# Altium footprint library RES.PcbLib: 26 footprints (part 1 of 2)
Each footprint in its own frame and in the unit in brackets; x right, y up, seen from the top. Pads: shape width x height; smd on the part's side, far side on the other; paste and mask are expansions set on the pad; w line width, h text height; cw(c..) or ccw(c..) is an arc to the next point about the centre after c.
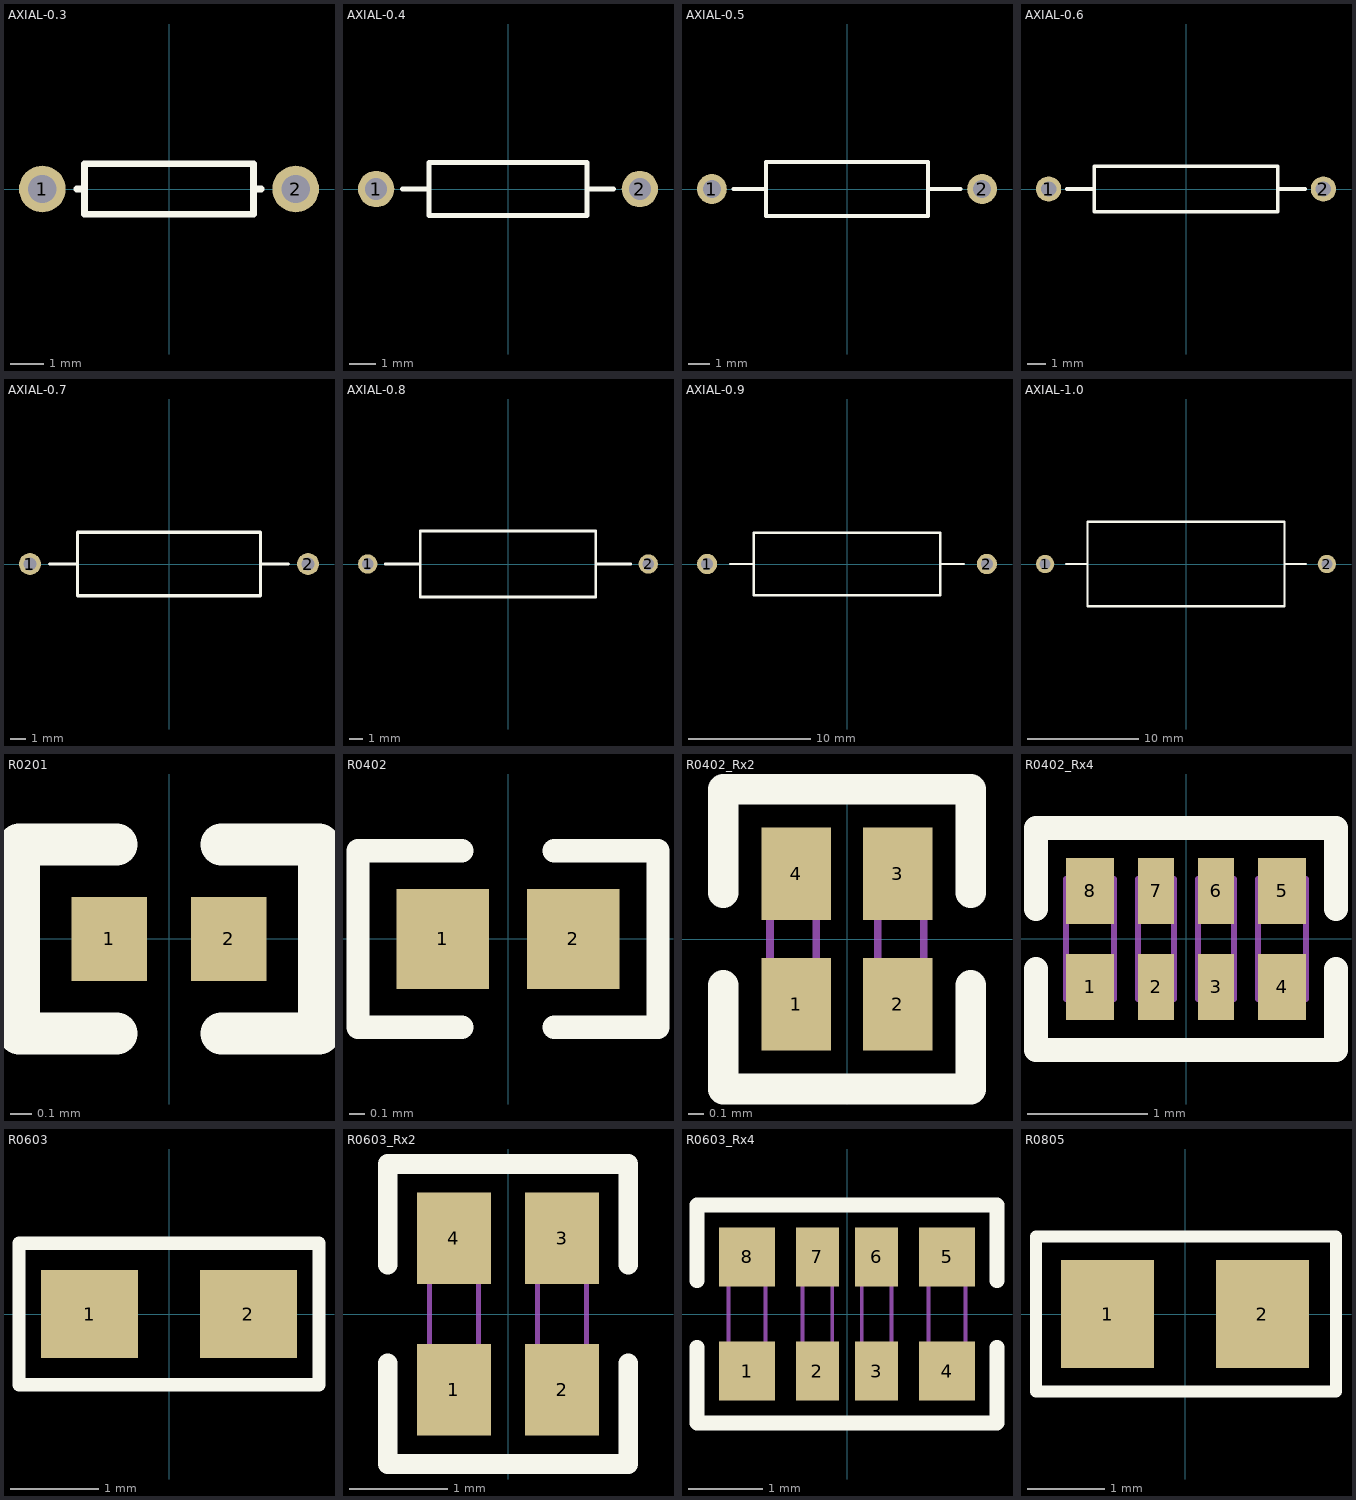
[diagram p0: the footprints below, top view; thin cyan lines are the x and y axes]

## AXIAL-0.3 [mm] "Axial Device, Thru-Hole; 2 Leads; 0.3 in Pin Spacing"
height 1.524
pads (2):
  round 1.4 hole 0.85: 1(-3.81,0) 2(3.81,0)
Top Overlay:
  lines w0.2: -2.769,0 -2.54,0 ; 2.769,0 2.54,0 ; 2.54,0 2.54,-0.762 -2.54,-0.762 -2.54,0.762 2.54,0.762 2.54,0

## AXIAL-0.4 [mm] "Axial Device, Thru-Hole; 2 Leads; 0.4 in Pin Spacing"
height 2.032
pads (2):
  round 1.4 hole 0.85: 1(-5.08,0) 2(5.08,0)
Top Overlay:
  lines w0.2: -4.064,0 -3.048,0 ; 3.048,0 4.064,0 ; -3.048,-1.016 3.048,-1.016 3.048,1.016 -3.048,1.016 -3.048,-1.016
3D body "User Library-Res40-Axial 0_25W-1K.step": height 2.41, standoff -2, extent -5.38,-1.257 5.38,1.143

## AXIAL-0.5 [mm] "Axial Device, Thru-Hole; 2 Leads; 0.5 in Pin Spacing"
height 2.54
pads (2):
  round 1.4 hole 0.85: 1(-6.35,0) 2(6.35,0)
Top Overlay:
  lines w0.2: -5.334,0 -3.81,0 ; 3.81,0 5.334,0 ; -3.81,-1.27 -3.81,1.27 3.81,1.27 3.81,-1.27 -3.81,-1.27
3D body "User Library-Res50-Axial 0_5W-1K.step": height 3.79, standoff -5.59, extent -6.725,-1.845 6.725,1.905

## AXIAL-0.6 [mm] "Axial Device, Thru-Hole; 2 Leads; 0.6 in Pin Spacing"
height 2.54
pads (2):
  round 1.4 hole 0.85: 1(-7.62,0) 2(7.62,0)
Top Overlay:
  lines w0.2: -6.604,0 -5.08,0 ; 5.08,0 6.604,0 ; -5.08,-1.27 5.08,-1.27 5.08,1.27 -5.08,1.27 -5.08,-1.27

## AXIAL-0.7 [mm] "Axial Device, Thru-Hole; 2 Leads; 0.7 in Pin Spacing"
height 4.064
pads (2):
  round 1.4 hole 0.85: 1(-8.89,0) 2(8.89,0)
Top Overlay:
  lines w0.2: -7.62,0 -5.842,0 ; 5.842,0 7.62,0 ; -5.842,-2.032 -5.842,2.032 5.842,2.032 5.842,-2.032 -5.842,-2.032

## AXIAL-0.8 [mm] "Axial Device, Thru-Hole; 2 Leads; 0.8 in Pin Spacing"
height 4.064
pads (2):
  round 1.4 hole 0.85: 1(-10.16,0) 2(10.16,0)
Top Overlay:
  lines w0.2: -8.89,0 -6.35,0 ; 6.35,0 8.89,0 ; -6.35,-2.388 -6.35,2.388 6.35,2.388 6.35,-2.388 -6.35,-2.388
3D body "User Library-RES 2W -H  L=15 D=5 d=0,8 Pin2Pin=20,32.STEP": height 7.5, standoff -2.54, extent -10.56,-2.5 10.56,2.5

## AXIAL-0.9 [mm] "Axial Device, Thru-Hole; 2 Leads; 0.9 in Pin Spacing"
height 5.08
pads (2):
  round 1.65 hole 1: 1(-11.43,0) 2(11.43,0)
Top Overlay:
  lines w0.2: -9.525,0 -7.62,0 ; 7.62,0 9.525,0 ; -7.62,-2.54 7.62,-2.54 7.62,2.54 -7.62,2.54 -7.62,-2.54

## AXIAL-1.0 [mm] "Axial Device, Thru-Hole; 2 Leads; 1.0 in Pin Spacing"
height 7.62
pads (2):
  round 1.65 hole 1: 1(-12.7,0) 2(12.7,0)
Top Overlay:
  lines w0.2: -10.795,0 -8.89,0 ; 8.89,0 10.795,0 ; -8.89,-3.81 8.89,-3.81 8.89,3.81 -8.89,3.81 -8.89,-3.81

## R0201 [mm]
pads (2):
  rect 0.36x0.4 smd mask+0.051: 1(-0.285,0) 2(0.285,0)
Top Overlay:
  lines w0.2: -0.25,-0.45 -0.715,-0.45 -0.715,0.45 -0.25,0.45 ; 0.25,-0.45 0.715,-0.45 0.715,0.45 0.25,0.45
3D body "User Library-RES_0603-0201.STEP": height 0.34, standoff 0, extent -0.34,-0.165 0.34,0.165

## R0402 [mm]
pads (2):
  rect 0.6x0.65 smd mask+0.051: 1(-0.425,0) 2(0.425,0)
Top Overlay:
  lines w0.152: -0.3,-0.575 -0.975,-0.575 -0.975,0.575 -0.3,0.575 ; 0.3,-0.575 0.975,-0.575 0.975,0.575 0.3,0.575
3D body "User Library-RES_1005-0402.STEP": height 0.41, standoff 0, extent -0.575,-0.275 0.575,0.275

## R0402_Rx2 [mm]
pads (4):
  rect 0.45x0.6 smd mask+0.051: 1(-0.33,-0.425) 2(0.33,-0.425) 3(0.33,0.425) 4(-0.33,0.425)
Top Overlay:
  lines w0.2: -0.805,-0.3 -0.805,-0.975 0.805,-0.975 0.805,-0.3 ; -0.805,0.3 -0.805,0.975 0.805,0.975 0.805,0.3
Mechanical 13:
  lines w0.05: -0.5,-0.5 -0.5,0.5 -0.2,0.5 -0.2,-0.5 -0.5,-0.5 ; 0.2,-0.5 0.2,0.5 0.5,0.5 0.5,-0.5 0.2,-0.5
3D body "User Library-YC122.STEP": height 0.35, standoff 0, extent -0.5,-0.5 0.5,0.5

## R0402_Rx4 [mm]
pads (8):
  rect 0.4x0.55 smd mask+0.051: 1(-0.8,-0.4) 4(0.8,-0.4) 5(0.8,0.4) 8(-0.8,0.4)
  rect 0.3x0.55 smd mask+0.051: 2(-0.25,-0.4) 3(0.25,-0.4) 6(0.25,0.4) 7(-0.25,0.4)
Top Overlay:
  lines w0.2: -1.25,-0.25 -1.25,-0.925 1.25,-0.925 1.25,-0.25 ; -1.25,0.25 -1.25,0.925 1.25,0.925 1.25,0.25
Mechanical 13:
  lines w0.05: -1,-0.5 -0.6,-0.5 ; -1,-0.5 -1,0.5 -0.6,0.5 -0.6,-0.5 ; -1,-0.5 -0.6,-0.5 ; -0.4,-0.5 -0.4,0.5 -0.1,0.5 -0.1,-0.5 -0.4,-0.5 ; 0.1,-0.5 0.1,0.5 0.4,0.5 0.4,-0.5 0.1,-0.5 ; 0.6,-0.5 0.6,0.5 1,0.5 1,-0.5 0.6,-0.5
3D body "User Library-YC124-1.step": height 0.45, standoff 0, extent -1,-0.5 1,0.5

## R0603 [mm]
pads (2):
  rect 1.1x1 smd: 1(-0.9,0) 2(0.9,0)
Top Overlay:
  lines w0.152: -1.7,-0.8 -1.7,0.8 0.152,0.8 1.7,0.8 1.7,-0.8 -1.7,-0.8
3D body "0603.STEP": height 0.46, standoff 0, extent -0.787,-0.386 0.737,0.381

## R0603_Rx2 [mm]
pads (4):
  rect 0.75x0.93 smd: 1(-0.55,-0.77) 2(0.55,-0.77) 3(0.55,0.77) 4(-0.55,0.77)
Top Overlay:
  lines w0.2: -1.225,-0.5 -1.225,-1.527 1.225,-1.527 1.225,-0.5 ; -1.225,0.5 -1.225,1.527 1.225,1.527 1.225,0.5
Mechanical 13:
  lines w0.05: -0.8,-0.8 -0.8,0.8 -0.3,0.8 -0.3,-0.8 -0.8,-0.8 ; 0.3,-0.8 0.3,0.8 0.8,0.8 0.8,-0.8 0.3,-0.8

## R0603_Rx4 [mm]
pads (8):
  rect 0.75x0.8 smd mask+0.051: 1(-1.35,-0.77) 4(1.35,-0.77) 5(1.35,0.77) 8(-1.35,0.77)
  rect 0.58x0.8 smd mask+0.051: 2(-0.4,-0.77) 3(0.4,-0.77) 6(0.4,0.77) 7(-0.4,0.77)
Top Overlay:
  lines w0.2: -2.025,-0.45 -2.025,-1.47 2.025,-1.47 2.025,-0.45 ; -2.025,0.45 -2.025,1.47 2.025,1.47 2.025,0.45
Mechanical 13:
  lines w0.05: -1.6,-0.8 -1.6,0.8 -1.1,0.8 -1.1,-0.8 -1.6,-0.8 ; -0.6,-0.8 -0.6,0.8 -0.2,0.8 -0.2,-0.8 -0.6,-0.8 ; 0.2,-0.8 0.2,0.8 0.6,0.8 0.6,-0.8 0.2,-0.8 ; 1.1,-0.8 1.1,0.8 1.6,0.8 1.6,-0.8 1.1,-0.8
3D body "SW3dPS-RN164P.STEP": height 0.55, standoff 0, extent -1.6,-0.8 1.6,0.8

## R0805 [mm]
pads (2):
  rect 1.2x1.4 smd: 1(-1,0) 2(1,0)
Top Overlay:
  lines w0.152: -1.925,-1 1.95,-1 1.95,1 -1.925,1 -1.925,-1
3D body "0805.STEP": height 0.61, standoff 0, extent -1.016,-0.653 1.016,0.622